# Altium footprint library PV36W104C01B00.PcbLib: 1 footprints
Each footprint in its own frame and in the unit in brackets; x right, y up, seen from the top. Pads: shape width x height; smd on the part's side, far side on the other; paste and mask are expansions set on the pad; w line width, h text height; cw(c..) or ccw(c..) is an arc to the next point about the centre after c.
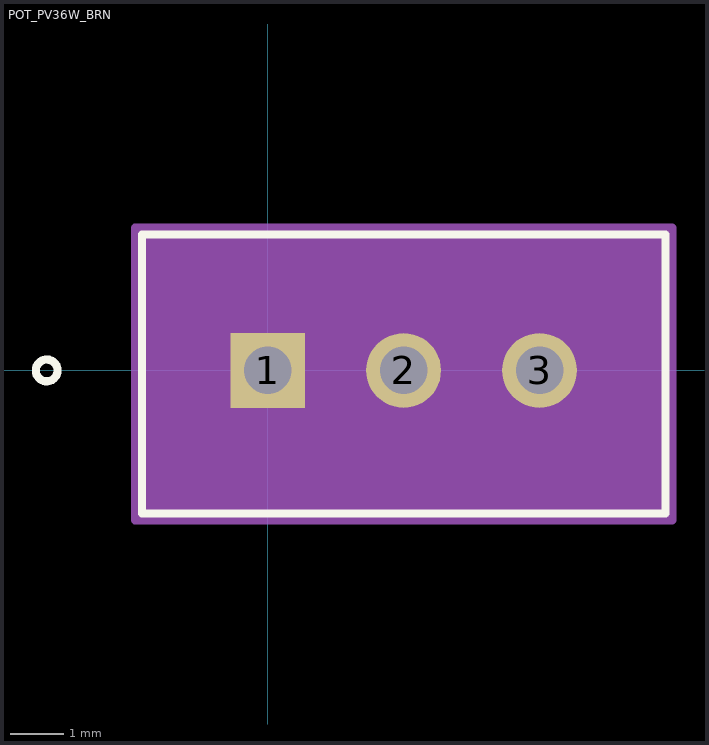
[diagram p0: the footprint, top view; thin cyan lines are the x and y axes]

## POT_PV36W_BRN [mil]
pads (3):
  rect 55x55 hole 35 paste-27.5 mask+0: 1(0,0)
  round 55 hole 35 paste-27.5 mask+0: 2(100,0) 3(200,0)
Top Overlay:
  circle w6: c-162.5,0 r8
  lines w6: -92.5,-105.12 292.5,-105.12 292.5,99.88 -92.5,99.88 -92.5,-105.12
  text ".Designator" at -37.5,-27.62 h50
Mechanical 13:
  circle w1: c-77.5,-90.12 r8
  lines w1: -87.5,-100.12 287.5,-100.12 287.5,94.88 -87.5,94.88 -87.5,-100.12
  text ".Designator" at -37.5,-27.62 h50
Mechanical 15:
  region: 297.5,104.88 -97.5,104.88 -97.5,-110.12 297.5,-110.12
  lines w6: -97.5,-110.12 -97.5,104.88 297.5,104.88 297.5,-110.12 -97.5,-110.12
3D body "POT_PV36W_BRN.step": height 455, standoff -200, extent -87.48,-100.12 287.48,94.88